# Altium footprint library Connector_PCBEdge.PcbLib: 101 footprints (part 6 of 7)
Each footprint in its own frame and in the unit in brackets; x right, y up, seen from the top. Pads: shape width x height; smd on the part's side, far side on the other; paste and mask are expansions set on the pad; w line width, h text height; cw(c..) or ccw(c..) is an arc to the next point about the centre after c.
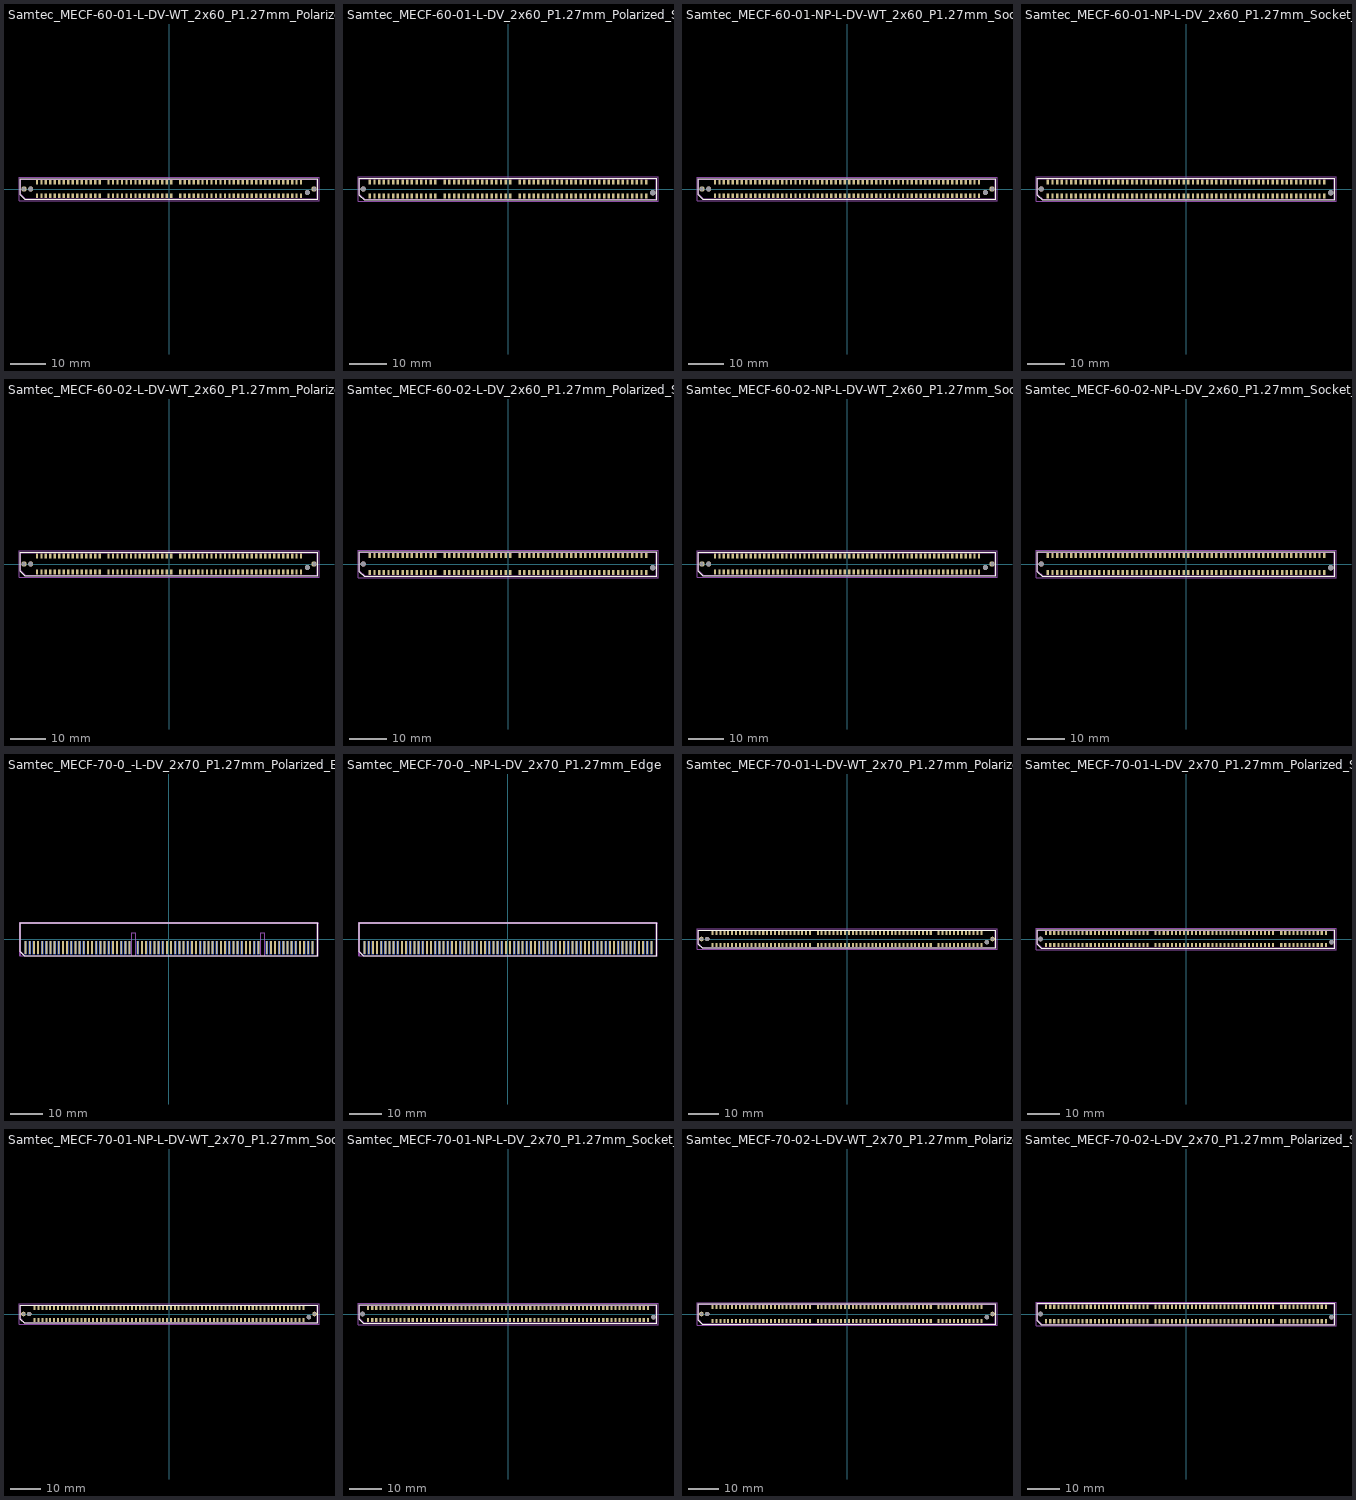
[diagram p5: the footprints below, top view; thin cyan lines are the x and y axes]

## Samtec_MECF-60-01-L-DV-WT_2x60_P1.27mm_Polarized_Socket_Horizontal [mm]
pads (120):
  rect 0.66x1.35 smd: 1(-37.465,-1.905) 2(-37.465,1.905) 3(-36.195,-1.905) 4(-36.195,1.905) 5(-34.925,-1.905) 6(-34.925,1.905) 7(-33.655,-1.905) 8(-33.655,1.905) 9(-32.385,-1.905) 10(-32.385,1.905) 11(-31.115,-1.905) 12(-31.115,1.905) 13(-29.845,-1.905) 14(-29.845,1.905) 15(-28.575,-1.905) 16(-28.575,1.905) 17(-27.305,-1.905) 18(-27.305,1.905) 19(-26.035,-1.905) 20(-26.035,1.905) 21(-24.765,-1.905) 22(-24.765,1.905) 23(-23.495,-1.905) 24(-23.495,1.905) 25(-22.225,-1.905) 26(-22.225,1.905) 27(-20.955,-1.905) 28(-20.955,1.905) 29(-19.685,-1.905) 30(-19.685,1.905) 33(-17.145,-1.905) 34(-17.145,1.905) 35(-15.875,-1.905) 36(-15.875,1.905) 37(-14.605,-1.905) 38(-14.605,1.905) 39(-13.335,-1.905) 40(-13.335,1.905) 41(-12.065,-1.905) 42(-12.065,1.905) 43(-10.795,-1.905) 44(-10.795,1.905) 45(-9.525,-1.905) 46(-9.525,1.905) 47(-8.255,-1.905) 48(-8.255,1.905) 49(-6.985,-1.905) 50(-6.985,1.905) 51(-5.715,-1.905) 52(-5.715,1.905) 53(-4.445,-1.905) 54(-4.445,1.905) 55(-3.175,-1.905) 56(-3.175,1.905) 57(-1.905,-1.905) 58(-1.905,1.905) 59(-0.635,-1.905) 60(-0.635,1.905) 61(0.635,-1.905) 62(0.635,1.905) 65(3.175,-1.905) 66(3.175,1.905) 67(4.445,-1.905) 68(4.445,1.905) 69(5.715,-1.905) 70(5.715,1.905) 71(6.985,-1.905) 72(6.985,1.905) 73(8.255,-1.905) 74(8.255,1.905) 75(9.525,-1.905) 76(9.525,1.905) 77(10.795,-1.905) 78(10.795,1.905) 79(12.065,-1.905) 80(12.065,1.905) 81(13.335,-1.905) 82(13.335,1.905) 83(14.605,-1.905) 84(14.605,1.905) 85(15.875,-1.905) 86(15.875,1.905) 87(17.145,-1.905) 88(17.145,1.905) 89(18.415,-1.905) 90(18.415,1.905) 91(19.685,-1.905) 92(19.685,1.905) 93(20.955,-1.905) 94(20.955,1.905) 95(22.225,-1.905) 96(22.225,1.905) 97(23.495,-1.905) 98(23.495,1.905) 99(24.765,-1.905) 100(24.765,1.905) 101(26.035,-1.905) 102(26.035,1.905) 103(27.305,-1.905) 104(27.305,1.905) 105(28.575,-1.905) 106(28.575,1.905) 107(29.845,-1.905) 108(29.845,1.905) 109(31.115,-1.905) 110(31.115,1.905) 111(32.385,-1.905) 112(32.385,1.905) 113(33.655,-1.905) 114(33.655,1.905) 115(34.925,-1.905) 116(34.925,1.905) 117(36.195,-1.905) 118(36.195,1.905) 119(37.465,-1.905) 120(37.465,1.905)
  round 1.5 hole 1: Un1(-41.15,0) Un4(41.15,0)
  round 1.45 hole 1.45: Un2(-39.245,0) Un3(39.245,-1)
F.SilkS:
  lines w0.254: -42.17,-1.65 -40.9,-2.92 42.17,-2.92 42.17,2.92 -42.17,2.92 -42.17,-1.65
Top Assembly:
  lines w0.254: -42.06,-1.535 -40.79,-2.805 42.06,-2.805 42.06,2.805 -42.06,2.805 -42.06,-1.535
  text "'.Designator'" at -4.047,-0.84 h1
Top Courtyard:
  lines w0.254: -42.56,-3.31 42.56,-3.31 42.56,3.31 -42.56,3.31 -42.56,-3.31
Top Designator:
  text ".Designator" at -7.618,-0.508 h1.52

## Samtec_MECF-60-01-L-DV_2x60_P1.27mm_Polarized_Socket_Horizontal [mm]
pads (118):
  rect 0.66x1.35 smd: 1(-37.465,-1.905) 2(-37.465,1.905) 3(-36.195,-1.905) 4(-36.195,1.905) 5(-34.925,-1.905) 6(-34.925,1.905) 7(-33.655,-1.905) 8(-33.655,1.905) 9(-32.385,-1.905) 10(-32.385,1.905) 11(-31.115,-1.905) 12(-31.115,1.905) 13(-29.845,-1.905) 14(-29.845,1.905) 15(-28.575,-1.905) 16(-28.575,1.905) 17(-27.305,-1.905) 18(-27.305,1.905) 19(-26.035,-1.905) 20(-26.035,1.905) 21(-24.765,-1.905) 22(-24.765,1.905) 23(-23.495,-1.905) 24(-23.495,1.905) 25(-22.225,-1.905) 26(-22.225,1.905) 27(-20.955,-1.905) 28(-20.955,1.905) 29(-19.685,-1.905) 30(-19.685,1.905) 33(-17.145,-1.905) 34(-17.145,1.905) 35(-15.875,-1.905) 36(-15.875,1.905) 37(-14.605,-1.905) 38(-14.605,1.905) 39(-13.335,-1.905) 40(-13.335,1.905) 41(-12.065,-1.905) 42(-12.065,1.905) 43(-10.795,-1.905) 44(-10.795,1.905) 45(-9.525,-1.905) 46(-9.525,1.905) 47(-8.255,-1.905) 48(-8.255,1.905) 49(-6.985,-1.905) 50(-6.985,1.905) 51(-5.715,-1.905) 52(-5.715,1.905) 53(-4.445,-1.905) 54(-4.445,1.905) 55(-3.175,-1.905) 56(-3.175,1.905) 57(-1.905,-1.905) 58(-1.905,1.905) 59(-0.635,-1.905) 60(-0.635,1.905) 61(0.635,-1.905) 62(0.635,1.905) 65(3.175,-1.905) 66(3.175,1.905) 67(4.445,-1.905) 68(4.445,1.905) 69(5.715,-1.905) 70(5.715,1.905) 71(6.985,-1.905) 72(6.985,1.905) 73(8.255,-1.905) 74(8.255,1.905) 75(9.525,-1.905) 76(9.525,1.905) 77(10.795,-1.905) 78(10.795,1.905) 79(12.065,-1.905) 80(12.065,1.905) 81(13.335,-1.905) 82(13.335,1.905) 83(14.605,-1.905) 84(14.605,1.905) 85(15.875,-1.905) 86(15.875,1.905) 87(17.145,-1.905) 88(17.145,1.905) 89(18.415,-1.905) 90(18.415,1.905) 91(19.685,-1.905) 92(19.685,1.905) 93(20.955,-1.905) 94(20.955,1.905) 95(22.225,-1.905) 96(22.225,1.905) 97(23.495,-1.905) 98(23.495,1.905) 99(24.765,-1.905) 100(24.765,1.905) 101(26.035,-1.905) 102(26.035,1.905) 103(27.305,-1.905) 104(27.305,1.905) 105(28.575,-1.905) 106(28.575,1.905) 107(29.845,-1.905) 108(29.845,1.905) 109(31.115,-1.905) 110(31.115,1.905) 111(32.385,-1.905) 112(32.385,1.905) 113(33.655,-1.905) 114(33.655,1.905) 115(34.925,-1.905) 116(34.925,1.905) 117(36.195,-1.905) 118(36.195,1.905) 119(37.465,-1.905) 120(37.465,1.905)
  round 1.45 hole 1.45: Un1(-39.245,0) Un2(39.245,-1)
F.SilkS:
  lines w0.254: -40.26,-1.65 -38.99,-2.92 40.26,-2.92 40.26,2.92 -40.26,2.92 -40.26,-1.65
Top Assembly:
  lines w0.254: -40.155,-1.535 -38.885,-2.805 40.155,-2.805 40.155,2.805 -40.155,2.805 -40.155,-1.535
  text "'.Designator'" at -4.047,-0.84 h1
Top Courtyard:
  lines w0.254: -40.66,-3.31 40.66,-3.31 40.66,3.31 -40.66,3.31 -40.66,-3.31
Top Designator:
  text ".Designator" at -7.618,-0.508 h1.52

## Samtec_MECF-60-01-NP-L-DV-WT_2x60_P1.27mm_Socket_Horizontal [mm]
pads (124):
  rect 0.66x1.35 smd: 1(-37.465,-1.905) 2(-37.465,1.905) 3(-36.195,-1.905) 4(-36.195,1.905) 5(-34.925,-1.905) 6(-34.925,1.905) 7(-33.655,-1.905) 8(-33.655,1.905) 9(-32.385,-1.905) 10(-32.385,1.905) 11(-31.115,-1.905) 12(-31.115,1.905) 13(-29.845,-1.905) 14(-29.845,1.905) 15(-28.575,-1.905) 16(-28.575,1.905) 17(-27.305,-1.905) 18(-27.305,1.905) 19(-26.035,-1.905) 20(-26.035,1.905) 21(-24.765,-1.905) 22(-24.765,1.905) 23(-23.495,-1.905) 24(-23.495,1.905) 25(-22.225,-1.905) 26(-22.225,1.905) 27(-20.955,-1.905) 28(-20.955,1.905) 29(-19.685,-1.905) 30(-19.685,1.905) 31(-18.415,-1.905) 32(-18.415,1.905) 33(-17.145,-1.905) 34(-17.145,1.905) 35(-15.875,-1.905) 36(-15.875,1.905) 37(-14.605,-1.905) 38(-14.605,1.905) 39(-13.335,-1.905) 40(-13.335,1.905) 41(-12.065,-1.905) 42(-12.065,1.905) 43(-10.795,-1.905) 44(-10.795,1.905) 45(-9.525,-1.905) 46(-9.525,1.905) 47(-8.255,-1.905) 48(-8.255,1.905) 49(-6.985,-1.905) 50(-6.985,1.905) 51(-5.715,-1.905) 52(-5.715,1.905) 53(-4.445,-1.905) 54(-4.445,1.905) 55(-3.175,-1.905) 56(-3.175,1.905) 57(-1.905,-1.905) 58(-1.905,1.905) 59(-0.635,-1.905) 60(-0.635,1.905) 61(0.635,-1.905) 62(0.635,1.905) 63(1.905,-1.905) 64(1.905,1.905) 65(3.175,-1.905) 66(3.175,1.905) 67(4.445,-1.905) 68(4.445,1.905) 69(5.715,-1.905) 70(5.715,1.905) 71(6.985,-1.905) 72(6.985,1.905) 73(8.255,-1.905) 74(8.255,1.905) 75(9.525,-1.905) 76(9.525,1.905) 77(10.795,-1.905) 78(10.795,1.905) 79(12.065,-1.905) 80(12.065,1.905) 81(13.335,-1.905) 82(13.335,1.905) 83(14.605,-1.905) 84(14.605,1.905) 85(15.875,-1.905) 86(15.875,1.905) 87(17.145,-1.905) 88(17.145,1.905) 89(18.415,-1.905) 90(18.415,1.905) 91(19.685,-1.905) 92(19.685,1.905) 93(20.955,-1.905) 94(20.955,1.905) 95(22.225,-1.905) 96(22.225,1.905) 97(23.495,-1.905) 98(23.495,1.905) 99(24.765,-1.905) 100(24.765,1.905) 101(26.035,-1.905) 102(26.035,1.905) 103(27.305,-1.905) 104(27.305,1.905) 105(28.575,-1.905) 106(28.575,1.905) 107(29.845,-1.905) 108(29.845,1.905) 109(31.115,-1.905) 110(31.115,1.905) 111(32.385,-1.905) 112(32.385,1.905) 113(33.655,-1.905) 114(33.655,1.905) 115(34.925,-1.905) 116(34.925,1.905) 117(36.195,-1.905) 118(36.195,1.905) 119(37.465,-1.905) 120(37.465,1.905)
  round 1.5 hole 1: Un1(-41.15,0) Un4(41.15,0)
  round 1.45 hole 1.45: Un2(-39.245,0) Un3(39.245,-1)
F.SilkS:
  lines w0.254: -42.17,-1.65 -40.9,-2.92 42.17,-2.92 42.17,2.92 -42.17,2.92 -42.17,-1.65
Top Assembly:
  lines w0.254: -42.06,-1.535 -40.79,-2.805 42.06,-2.805 42.06,2.805 -42.06,2.805 -42.06,-1.535
  text "'.Designator'" at -4.047,-0.84 h1
Top Courtyard:
  lines w0.254: -42.56,-3.31 42.56,-3.31 42.56,3.31 -42.56,3.31 -42.56,-3.31
Top Designator:
  text ".Designator" at -7.618,-0.508 h1.52

## Samtec_MECF-60-01-NP-L-DV_2x60_P1.27mm_Socket_Horizontal [mm]
pads (122):
  rect 0.66x1.35 smd: 1(-37.465,-1.905) 2(-37.465,1.905) 3(-36.195,-1.905) 4(-36.195,1.905) 5(-34.925,-1.905) 6(-34.925,1.905) 7(-33.655,-1.905) 8(-33.655,1.905) 9(-32.385,-1.905) 10(-32.385,1.905) 11(-31.115,-1.905) 12(-31.115,1.905) 13(-29.845,-1.905) 14(-29.845,1.905) 15(-28.575,-1.905) 16(-28.575,1.905) 17(-27.305,-1.905) 18(-27.305,1.905) 19(-26.035,-1.905) 20(-26.035,1.905) 21(-24.765,-1.905) 22(-24.765,1.905) 23(-23.495,-1.905) 24(-23.495,1.905) 25(-22.225,-1.905) 26(-22.225,1.905) 27(-20.955,-1.905) 28(-20.955,1.905) 29(-19.685,-1.905) 30(-19.685,1.905) 31(-18.415,-1.905) 32(-18.415,1.905) 33(-17.145,-1.905) 34(-17.145,1.905) 35(-15.875,-1.905) 36(-15.875,1.905) 37(-14.605,-1.905) 38(-14.605,1.905) 39(-13.335,-1.905) 40(-13.335,1.905) 41(-12.065,-1.905) 42(-12.065,1.905) 43(-10.795,-1.905) 44(-10.795,1.905) 45(-9.525,-1.905) 46(-9.525,1.905) 47(-8.255,-1.905) 48(-8.255,1.905) 49(-6.985,-1.905) 50(-6.985,1.905) 51(-5.715,-1.905) 52(-5.715,1.905) 53(-4.445,-1.905) 54(-4.445,1.905) 55(-3.175,-1.905) 56(-3.175,1.905) 57(-1.905,-1.905) 58(-1.905,1.905) 59(-0.635,-1.905) 60(-0.635,1.905) 61(0.635,-1.905) 62(0.635,1.905) 63(1.905,-1.905) 64(1.905,1.905) 65(3.175,-1.905) 66(3.175,1.905) 67(4.445,-1.905) 68(4.445,1.905) 69(5.715,-1.905) 70(5.715,1.905) 71(6.985,-1.905) 72(6.985,1.905) 73(8.255,-1.905) 74(8.255,1.905) 75(9.525,-1.905) 76(9.525,1.905) 77(10.795,-1.905) 78(10.795,1.905) 79(12.065,-1.905) 80(12.065,1.905) 81(13.335,-1.905) 82(13.335,1.905) 83(14.605,-1.905) 84(14.605,1.905) 85(15.875,-1.905) 86(15.875,1.905) 87(17.145,-1.905) 88(17.145,1.905) 89(18.415,-1.905) 90(18.415,1.905) 91(19.685,-1.905) 92(19.685,1.905) 93(20.955,-1.905) 94(20.955,1.905) 95(22.225,-1.905) 96(22.225,1.905) 97(23.495,-1.905) 98(23.495,1.905) 99(24.765,-1.905) 100(24.765,1.905) 101(26.035,-1.905) 102(26.035,1.905) 103(27.305,-1.905) 104(27.305,1.905) 105(28.575,-1.905) 106(28.575,1.905) 107(29.845,-1.905) 108(29.845,1.905) 109(31.115,-1.905) 110(31.115,1.905) 111(32.385,-1.905) 112(32.385,1.905) 113(33.655,-1.905) 114(33.655,1.905) 115(34.925,-1.905) 116(34.925,1.905) 117(36.195,-1.905) 118(36.195,1.905) 119(37.465,-1.905) 120(37.465,1.905)
  round 1.45 hole 1.45: Un1(-39.245,0) Un2(39.245,-1)
F.SilkS:
  lines w0.254: -40.26,-1.65 -38.99,-2.92 40.26,-2.92 40.26,2.92 -40.26,2.92 -40.26,-1.65
Top Assembly:
  lines w0.254: -40.155,-1.535 -38.885,-2.805 40.155,-2.805 40.155,2.805 -40.155,2.805 -40.155,-1.535
  text "'.Designator'" at -4.047,-0.84 h1
Top Courtyard:
  lines w0.254: -40.66,-3.31 40.66,-3.31 40.66,3.31 -40.66,3.31 -40.66,-3.31
Top Designator:
  text ".Designator" at -7.618,-0.508 h1.52

## Samtec_MECF-60-02-L-DV-WT_2x60_P1.27mm_Polarized_Socket_Horizontal [mm]
pads (120):
  rect 0.66x1.35 smd: 1(-37.465,-2.3) 2(-37.465,2.3) 3(-36.195,-2.3) 4(-36.195,2.3) 5(-34.925,-2.3) 6(-34.925,2.3) 7(-33.655,-2.3) 8(-33.655,2.3) 9(-32.385,-2.3) 10(-32.385,2.3) 11(-31.115,-2.3) 12(-31.115,2.3) 13(-29.845,-2.3) 14(-29.845,2.3) 15(-28.575,-2.3) 16(-28.575,2.3) 17(-27.305,-2.3) 18(-27.305,2.3) 19(-26.035,-2.3) 20(-26.035,2.3) 21(-24.765,-2.3) 22(-24.765,2.3) 23(-23.495,-2.3) 24(-23.495,2.3) 25(-22.225,-2.3) 26(-22.225,2.3) 27(-20.955,-2.3) 28(-20.955,2.3) 29(-19.685,-2.3) 30(-19.685,2.3) 33(-17.145,-2.3) 34(-17.145,2.3) 35(-15.875,-2.3) 36(-15.875,2.3) 37(-14.605,-2.3) 38(-14.605,2.3) 39(-13.335,-2.3) 40(-13.335,2.3) 41(-12.065,-2.3) 42(-12.065,2.3) 43(-10.795,-2.3) 44(-10.795,2.3) 45(-9.525,-2.3) 46(-9.525,2.3) 47(-8.255,-2.3) 48(-8.255,2.3) 49(-6.985,-2.3) 50(-6.985,2.3) 51(-5.715,-2.3) 52(-5.715,2.3) 53(-4.445,-2.3) 54(-4.445,2.3) 55(-3.175,-2.3) 56(-3.175,2.3) 57(-1.905,-2.3) 58(-1.905,2.3) 59(-0.635,-2.3) 60(-0.635,2.3) 61(0.635,-2.3) 62(0.635,2.3) 65(3.175,-2.3) 66(3.175,2.3) 67(4.445,-2.3) 68(4.445,2.3) 69(5.715,-2.3) 70(5.715,2.3) 71(6.985,-2.3) 72(6.985,2.3) 73(8.255,-2.3) 74(8.255,2.3) 75(9.525,-2.3) 76(9.525,2.3) 77(10.795,-2.3) 78(10.795,2.3) 79(12.065,-2.3) 80(12.065,2.3) 81(13.335,-2.3) 82(13.335,2.3) 83(14.605,-2.3) 84(14.605,2.3) 85(15.875,-2.3) 86(15.875,2.3) 87(17.145,-2.3) 88(17.145,2.3) 89(18.415,-2.3) 90(18.415,2.3) 91(19.685,-2.3) 92(19.685,2.3) 93(20.955,-2.3) 94(20.955,2.3) 95(22.225,-2.3) 96(22.225,2.3) 97(23.495,-2.3) 98(23.495,2.3) 99(24.765,-2.3) 100(24.765,2.3) 101(26.035,-2.3) 102(26.035,2.3) 103(27.305,-2.3) 104(27.305,2.3) 105(28.575,-2.3) 106(28.575,2.3) 107(29.845,-2.3) 108(29.845,2.3) 109(31.115,-2.3) 110(31.115,2.3) 111(32.385,-2.3) 112(32.385,2.3) 113(33.655,-2.3) 114(33.655,2.3) 115(34.925,-2.3) 116(34.925,2.3) 117(36.195,-2.3) 118(36.195,2.3) 119(37.465,-2.3) 120(37.465,2.3)
  round 1.5 hole 1: Un1(-41.15,0) Un4(41.15,0)
  round 1.45 hole 1.45: Un2(-39.245,0) Un3(39.245,-1)
F.SilkS:
  lines w0.254: -42.17,-2.04 -40.9,-3.31 42.17,-3.31 42.17,3.31 -42.17,3.31 -42.17,-2.04
Top Assembly:
  lines w0.254: -42.06,-1.93 -40.79,-3.2 42.06,-3.2 42.06,3.2 -42.06,3.2 -42.06,-1.93
  text "'.Designator'" at -4.047,-0.84 h1
Top Courtyard:
  lines w0.254: -42.56,-3.7 42.56,-3.7 42.56,3.7 -42.56,3.7 -42.56,-3.7
Top Designator:
  text ".Designator" at -7.618,-0.508 h1.52

## Samtec_MECF-60-02-L-DV_2x60_P1.27mm_Polarized_Socket_Horizontal [mm]
pads (118):
  rect 0.66x1.35 smd: 1(-37.465,-2.3) 2(-37.465,2.3) 3(-36.195,-2.3) 4(-36.195,2.3) 5(-34.925,-2.3) 6(-34.925,2.3) 7(-33.655,-2.3) 8(-33.655,2.3) 9(-32.385,-2.3) 10(-32.385,2.3) 11(-31.115,-2.3) 12(-31.115,2.3) 13(-29.845,-2.3) 14(-29.845,2.3) 15(-28.575,-2.3) 16(-28.575,2.3) 17(-27.305,-2.3) 18(-27.305,2.3) 19(-26.035,-2.3) 20(-26.035,2.3) 21(-24.765,-2.3) 22(-24.765,2.3) 23(-23.495,-2.3) 24(-23.495,2.3) 25(-22.225,-2.3) 26(-22.225,2.3) 27(-20.955,-2.3) 28(-20.955,2.3) 29(-19.685,-2.3) 30(-19.685,2.3) 33(-17.145,-2.3) 34(-17.145,2.3) 35(-15.875,-2.3) 36(-15.875,2.3) 37(-14.605,-2.3) 38(-14.605,2.3) 39(-13.335,-2.3) 40(-13.335,2.3) 41(-12.065,-2.3) 42(-12.065,2.3) 43(-10.795,-2.3) 44(-10.795,2.3) 45(-9.525,-2.3) 46(-9.525,2.3) 47(-8.255,-2.3) 48(-8.255,2.3) 49(-6.985,-2.3) 50(-6.985,2.3) 51(-5.715,-2.3) 52(-5.715,2.3) 53(-4.445,-2.3) 54(-4.445,2.3) 55(-3.175,-2.3) 56(-3.175,2.3) 57(-1.905,-2.3) 58(-1.905,2.3) 59(-0.635,-2.3) 60(-0.635,2.3) 61(0.635,-2.3) 62(0.635,2.3) 65(3.175,-2.3) 66(3.175,2.3) 67(4.445,-2.3) 68(4.445,2.3) 69(5.715,-2.3) 70(5.715,2.3) 71(6.985,-2.3) 72(6.985,2.3) 73(8.255,-2.3) 74(8.255,2.3) 75(9.525,-2.3) 76(9.525,2.3) 77(10.795,-2.3) 78(10.795,2.3) 79(12.065,-2.3) 80(12.065,2.3) 81(13.335,-2.3) 82(13.335,2.3) 83(14.605,-2.3) 84(14.605,2.3) 85(15.875,-2.3) 86(15.875,2.3) 87(17.145,-2.3) 88(17.145,2.3) 89(18.415,-2.3) 90(18.415,2.3) 91(19.685,-2.3) 92(19.685,2.3) 93(20.955,-2.3) 94(20.955,2.3) 95(22.225,-2.3) 96(22.225,2.3) 97(23.495,-2.3) 98(23.495,2.3) 99(24.765,-2.3) 100(24.765,2.3) 101(26.035,-2.3) 102(26.035,2.3) 103(27.305,-2.3) 104(27.305,2.3) 105(28.575,-2.3) 106(28.575,2.3) 107(29.845,-2.3) 108(29.845,2.3) 109(31.115,-2.3) 110(31.115,2.3) 111(32.385,-2.3) 112(32.385,2.3) 113(33.655,-2.3) 114(33.655,2.3) 115(34.925,-2.3) 116(34.925,2.3) 117(36.195,-2.3) 118(36.195,2.3) 119(37.465,-2.3) 120(37.465,2.3)
  round 1.45 hole 1.45: Un1(-39.245,0) Un2(39.245,-1)
F.SilkS:
  lines w0.254: -40.26,-2.04 -38.99,-3.31 40.26,-3.31 40.26,3.31 -40.26,3.31 -40.26,-2.04
Top Assembly:
  lines w0.254: -40.155,-1.93 -38.885,-3.2 40.155,-3.2 40.155,3.2 -40.155,3.2 -40.155,-1.93
  text "'.Designator'" at -4.047,-0.84 h1
Top Courtyard:
  lines w0.254: -40.66,-3.7 40.66,-3.7 40.66,3.7 -40.66,3.7 -40.66,-3.7
Top Designator:
  text ".Designator" at -7.618,-0.508 h1.52

## Samtec_MECF-60-02-NP-L-DV-WT_2x60_P1.27mm_Socket_Horizontal [mm]
pads (124):
  rect 0.66x1.35 smd: 1(-37.465,-2.3) 2(-37.465,2.3) 3(-36.195,-2.3) 4(-36.195,2.3) 5(-34.925,-2.3) 6(-34.925,2.3) 7(-33.655,-2.3) 8(-33.655,2.3) 9(-32.385,-2.3) 10(-32.385,2.3) 11(-31.115,-2.3) 12(-31.115,2.3) 13(-29.845,-2.3) 14(-29.845,2.3) 15(-28.575,-2.3) 16(-28.575,2.3) 17(-27.305,-2.3) 18(-27.305,2.3) 19(-26.035,-2.3) 20(-26.035,2.3) 21(-24.765,-2.3) 22(-24.765,2.3) 23(-23.495,-2.3) 24(-23.495,2.3) 25(-22.225,-2.3) 26(-22.225,2.3) 27(-20.955,-2.3) 28(-20.955,2.3) 29(-19.685,-2.3) 30(-19.685,2.3) 31(-18.415,-2.3) 32(-18.415,2.3) 33(-17.145,-2.3) 34(-17.145,2.3) 35(-15.875,-2.3) 36(-15.875,2.3) 37(-14.605,-2.3) 38(-14.605,2.3) 39(-13.335,-2.3) 40(-13.335,2.3) 41(-12.065,-2.3) 42(-12.065,2.3) 43(-10.795,-2.3) 44(-10.795,2.3) 45(-9.525,-2.3) 46(-9.525,2.3) 47(-8.255,-2.3) 48(-8.255,2.3) 49(-6.985,-2.3) 50(-6.985,2.3) 51(-5.715,-2.3) 52(-5.715,2.3) 53(-4.445,-2.3) 54(-4.445,2.3) 55(-3.175,-2.3) 56(-3.175,2.3) 57(-1.905,-2.3) 58(-1.905,2.3) 59(-0.635,-2.3) 60(-0.635,2.3) 61(0.635,-2.3) 62(0.635,2.3) 63(1.905,-2.3) 64(1.905,2.3) 65(3.175,-2.3) 66(3.175,2.3) 67(4.445,-2.3) 68(4.445,2.3) 69(5.715,-2.3) 70(5.715,2.3) 71(6.985,-2.3) 72(6.985,2.3) 73(8.255,-2.3) 74(8.255,2.3) 75(9.525,-2.3) 76(9.525,2.3) 77(10.795,-2.3) 78(10.795,2.3) 79(12.065,-2.3) 80(12.065,2.3) 81(13.335,-2.3) 82(13.335,2.3) 83(14.605,-2.3) 84(14.605,2.3) 85(15.875,-2.3) 86(15.875,2.3) 87(17.145,-2.3) 88(17.145,2.3) 89(18.415,-2.3) 90(18.415,2.3) 91(19.685,-2.3) 92(19.685,2.3) 93(20.955,-2.3) 94(20.955,2.3) 95(22.225,-2.3) 96(22.225,2.3) 97(23.495,-2.3) 98(23.495,2.3) 99(24.765,-2.3) 100(24.765,2.3) 101(26.035,-2.3) 102(26.035,2.3) 103(27.305,-2.3) 104(27.305,2.3) 105(28.575,-2.3) 106(28.575,2.3) 107(29.845,-2.3) 108(29.845,2.3) 109(31.115,-2.3) 110(31.115,2.3) 111(32.385,-2.3) 112(32.385,2.3) 113(33.655,-2.3) 114(33.655,2.3) 115(34.925,-2.3) 116(34.925,2.3) 117(36.195,-2.3) 118(36.195,2.3) 119(37.465,-2.3) 120(37.465,2.3)
  round 1.5 hole 1: Un1(-41.15,0) Un4(41.15,0)
  round 1.45 hole 1.45: Un2(-39.245,0) Un3(39.245,-1)
F.SilkS:
  lines w0.254: -42.17,-2.04 -40.9,-3.31 42.17,-3.31 42.17,3.31 -42.17,3.31 -42.17,-2.04
Top Assembly:
  lines w0.254: -42.06,-1.93 -40.79,-3.2 42.06,-3.2 42.06,3.2 -42.06,3.2 -42.06,-1.93
  text "'.Designator'" at -4.047,-0.84 h1
Top Courtyard:
  lines w0.254: -42.56,-3.7 42.56,-3.7 42.56,3.7 -42.56,3.7 -42.56,-3.7
Top Designator:
  text ".Designator" at -7.618,-0.508 h1.52

## Samtec_MECF-60-02-NP-L-DV_2x60_P1.27mm_Socket_Horizontal [mm]
pads (122):
  rect 0.66x1.35 smd: 1(-37.465,-2.3) 2(-37.465,2.3) 3(-36.195,-2.3) 4(-36.195,2.3) 5(-34.925,-2.3) 6(-34.925,2.3) 7(-33.655,-2.3) 8(-33.655,2.3) 9(-32.385,-2.3) 10(-32.385,2.3) 11(-31.115,-2.3) 12(-31.115,2.3) 13(-29.845,-2.3) 14(-29.845,2.3) 15(-28.575,-2.3) 16(-28.575,2.3) 17(-27.305,-2.3) 18(-27.305,2.3) 19(-26.035,-2.3) 20(-26.035,2.3) 21(-24.765,-2.3) 22(-24.765,2.3) 23(-23.495,-2.3) 24(-23.495,2.3) 25(-22.225,-2.3) 26(-22.225,2.3) 27(-20.955,-2.3) 28(-20.955,2.3) 29(-19.685,-2.3) 30(-19.685,2.3) 31(-18.415,-2.3) 32(-18.415,2.3) 33(-17.145,-2.3) 34(-17.145,2.3) 35(-15.875,-2.3) 36(-15.875,2.3) 37(-14.605,-2.3) 38(-14.605,2.3) 39(-13.335,-2.3) 40(-13.335,2.3) 41(-12.065,-2.3) 42(-12.065,2.3) 43(-10.795,-2.3) 44(-10.795,2.3) 45(-9.525,-2.3) 46(-9.525,2.3) 47(-8.255,-2.3) 48(-8.255,2.3) 49(-6.985,-2.3) 50(-6.985,2.3) 51(-5.715,-2.3) 52(-5.715,2.3) 53(-4.445,-2.3) 54(-4.445,2.3) 55(-3.175,-2.3) 56(-3.175,2.3) 57(-1.905,-2.3) 58(-1.905,2.3) 59(-0.635,-2.3) 60(-0.635,2.3) 61(0.635,-2.3) 62(0.635,2.3) 63(1.905,-2.3) 64(1.905,2.3) 65(3.175,-2.3) 66(3.175,2.3) 67(4.445,-2.3) 68(4.445,2.3) 69(5.715,-2.3) 70(5.715,2.3) 71(6.985,-2.3) 72(6.985,2.3) 73(8.255,-2.3) 74(8.255,2.3) 75(9.525,-2.3) 76(9.525,2.3) 77(10.795,-2.3) 78(10.795,2.3) 79(12.065,-2.3) 80(12.065,2.3) 81(13.335,-2.3) 82(13.335,2.3) 83(14.605,-2.3) 84(14.605,2.3) 85(15.875,-2.3) 86(15.875,2.3) 87(17.145,-2.3) 88(17.145,2.3) 89(18.415,-2.3) 90(18.415,2.3) 91(19.685,-2.3) 92(19.685,2.3) 93(20.955,-2.3) 94(20.955,2.3) 95(22.225,-2.3) 96(22.225,2.3) 97(23.495,-2.3) 98(23.495,2.3) 99(24.765,-2.3) 100(24.765,2.3) 101(26.035,-2.3) 102(26.035,2.3) 103(27.305,-2.3) 104(27.305,2.3) 105(28.575,-2.3) 106(28.575,2.3) 107(29.845,-2.3) 108(29.845,2.3) 109(31.115,-2.3) 110(31.115,2.3) 111(32.385,-2.3) 112(32.385,2.3) 113(33.655,-2.3) 114(33.655,2.3) 115(34.925,-2.3) 116(34.925,2.3) 117(36.195,-2.3) 118(36.195,2.3) 119(37.465,-2.3) 120(37.465,2.3)
  round 1.45 hole 1.45: Un1(-39.245,0) Un2(39.245,-1)
F.SilkS:
  lines w0.254: -40.26,-2.04 -38.99,-3.31 40.26,-3.31 40.26,3.31 -40.26,3.31 -40.26,-2.04
Top Assembly:
  lines w0.254: -40.155,-1.93 -38.885,-3.2 40.155,-3.2 40.155,3.2 -40.155,3.2 -40.155,-1.93
  text "'.Designator'" at -4.047,-0.84 h1
Top Courtyard:
  lines w0.254: -40.66,-3.7 40.66,-3.7 40.66,3.7 -40.66,3.7 -40.66,-3.7
Top Designator:
  text ".Designator" at -7.618,-0.508 h1.52

## Samtec_MECF-70-0_-L-DV_2x70_P1.27mm_Polarized_Edge [mm]
pads (136):
  rect 0.56x4 smd: 1(-43.805,-2.5) 3(-42.535,-2.5) 5(-41.265,-2.5) 7(-39.995,-2.5) 9(-38.725,-2.5) 11(-37.455,-2.5) 13(-36.185,-2.5) 15(-34.915,-2.5) 17(-33.645,-2.5) 19(-32.375,-2.5) 21(-31.105,-2.5) 23(-29.835,-2.5) 25(-28.565,-2.5) 27(-27.295,-2.5) 29(-26.025,-2.5) 31(-24.755,-2.5) 33(-23.485,-2.5) 35(-22.215,-2.5) 37(-20.945,-2.5) 39(-19.675,-2.5) 41(-18.405,-2.5) 43(-17.135,-2.5) 45(-15.865,-2.5) 47(-14.595,-2.5) 49(-13.325,-2.5) 51(-12.055,-2.5) 55(-9.515,-2.5) 57(-8.245,-2.5) 59(-6.975,-2.5) 61(-5.705,-2.5) 63(-4.435,-2.5) 65(-3.165,-2.5) 67(-1.895,-2.5) 69(-0.625,-2.5) 71(0.645,-2.5) 73(1.915,-2.5) 75(3.185,-2.5) 77(4.455,-2.5) 79(5.725,-2.5) 81(6.995,-2.5) 83(8.265,-2.5) 85(9.535,-2.5) 87(10.805,-2.5) 89(12.075,-2.5) 91(13.345,-2.5) 93(14.615,-2.5) 95(15.885,-2.5) 97(17.155,-2.5) 99(18.425,-2.5) 101(19.695,-2.5) 103(20.965,-2.5) 105(22.235,-2.5) 107(23.505,-2.5) 109(24.775,-2.5) 111(26.045,-2.5) 113(27.315,-2.5) 117(29.855,-2.5) 119(31.125,-2.5) 121(32.395,-2.5) 123(33.665,-2.5) 125(34.935,-2.5) 127(36.205,-2.5) 129(37.475,-2.5) 131(38.745,-2.5) 133(40.015,-2.5) 135(41.285,-2.5) 137(42.555,-2.5) 139(43.825,-2.5)
  rect 0.56x4 smd far side: 2(-43.805,-2.5) 4(-42.535,-2.5) 6(-41.265,-2.5) 8(-39.995,-2.5) 10(-38.725,-2.5) 12(-37.455,-2.5) 14(-36.185,-2.5) 16(-34.915,-2.5) 18(-33.645,-2.5) 20(-32.375,-2.5) 22(-31.105,-2.5) 24(-29.835,-2.5) 26(-28.565,-2.5) 28(-27.295,-2.5) 30(-26.025,-2.5) 32(-24.755,-2.5) 34(-23.485,-2.5) 36(-22.215,-2.5) 38(-20.945,-2.5) 40(-19.675,-2.5) 42(-18.405,-2.5) 44(-17.135,-2.5) 46(-15.865,-2.5) 48(-14.595,-2.5) 50(-13.325,-2.5) 52(-12.055,-2.5) 56(-9.515,-2.5) 58(-8.245,-2.5) 60(-6.975,-2.5) 62(-5.705,-2.5) 64(-4.435,-2.5) 66(-3.165,-2.5) 68(-1.895,-2.5) 70(-0.625,-2.5) 72(0.645,-2.5) 74(1.915,-2.5) 76(3.185,-2.5) 78(4.455,-2.5) 80(5.725,-2.5) 82(6.995,-2.5) 84(8.265,-2.5) 86(9.535,-2.5) 88(10.805,-2.5) 90(12.075,-2.5) 92(13.345,-2.5) 94(14.615,-2.5) 96(15.885,-2.5) 98(17.155,-2.5) 100(18.425,-2.5) 102(19.695,-2.5) 104(20.965,-2.5) 106(22.235,-2.5) 108(23.505,-2.5) 110(24.775,-2.5) 112(26.045,-2.5) 114(27.315,-2.5) 118(29.855,-2.5) 120(31.125,-2.5) 122(32.395,-2.5) 124(33.665,-2.5) 126(34.935,-2.5) 128(36.205,-2.5) 130(37.475,-2.5) 132(38.745,-2.5) 134(40.015,-2.5) 136(41.285,-2.5) 138(42.555,-2.5) 140(43.825,-2.5)
F.SilkS:
  lines w0.254: -45.44,-3.73 -44.17,-5 45.44,-5 45.44,5.11 -45.44,5.11 -45.44,-3.73
B.SilkS:
  lines w0.254: -45.44,-5 45.44,-5 45.44,5.11 -45.44,5.11 -45.44,-5
Top Assembly:
  lines w0.254: -45.325,-3.73 -44.055,-5 45.325,-5 45.325,5 -45.325,5 -45.325,-3.73
  text "'.Designator'" at -4.047,1.7 h1
Bottom Assembly:
  lines w0.254: -45.325,-5 45.325,-5 45.325,5 -45.325,5 -45.325,-5
Top Courtyard:
  lines w0.254: -45.58,-5 45.58,-5 45.58,5.25 -45.58,5.25 -45.58,-5
Bottom Courtyard:
  lines w0.254: -45.58,-5 45.58,-5 45.58,5.25 -45.58,5.25 -45.58,-5
Top Designator:
  text ".Designator" at -7.618,-0.383 h1.52
Board Shape:
  lines w0.254: -45.75,5 -45.325,5 -45.325,-5 -11.405,-5 -11.405,2 -10.165,2 -10.165,-5 27.965,-5 27.965,2 29.205,2 29.205,-5 45.325,-5 45.325,5 45.75,5

## Samtec_MECF-70-0_-NP-L-DV_2x70_P1.27mm_Edge [mm]
pads (140):
  rect 0.56x4 smd: 1(-43.805,-2.5) 3(-42.535,-2.5) 5(-41.265,-2.5) 7(-39.995,-2.5) 9(-38.725,-2.5) 11(-37.455,-2.5) 13(-36.185,-2.5) 15(-34.915,-2.5) 17(-33.645,-2.5) 19(-32.375,-2.5) 21(-31.105,-2.5) 23(-29.835,-2.5) 25(-28.565,-2.5) 27(-27.295,-2.5) 29(-26.025,-2.5) 31(-24.755,-2.5) 33(-23.485,-2.5) 35(-22.215,-2.5) 37(-20.945,-2.5) 39(-19.675,-2.5) 41(-18.405,-2.5) 43(-17.135,-2.5) 45(-15.865,-2.5) 47(-14.595,-2.5) 49(-13.325,-2.5) 51(-12.055,-2.5) 53(-10.785,-2.5) 55(-9.515,-2.5) 57(-8.245,-2.5) 59(-6.975,-2.5) 61(-5.705,-2.5) 63(-4.435,-2.5) 65(-3.165,-2.5) 67(-1.895,-2.5) 69(-0.625,-2.5) 71(0.645,-2.5) 73(1.915,-2.5) 75(3.185,-2.5) 77(4.455,-2.5) 79(5.725,-2.5) 81(6.995,-2.5) 83(8.265,-2.5) 85(9.535,-2.5) 87(10.805,-2.5) 89(12.075,-2.5) 91(13.345,-2.5) 93(14.615,-2.5) 95(15.885,-2.5) 97(17.155,-2.5) 99(18.425,-2.5) 101(19.695,-2.5) 103(20.965,-2.5) 105(22.235,-2.5) 107(23.505,-2.5) 109(24.775,-2.5) 111(26.045,-2.5) 113(27.315,-2.5) 115(28.585,-2.5) 117(29.855,-2.5) 119(31.125,-2.5) 121(32.395,-2.5) 123(33.665,-2.5) 125(34.935,-2.5) 127(36.205,-2.5) 129(37.475,-2.5) 131(38.745,-2.5) 133(40.015,-2.5) 135(41.285,-2.5) 137(42.555,-2.5) 139(43.825,-2.5)
  rect 0.56x4 smd far side: 2(-43.805,-2.5) 4(-42.535,-2.5) 6(-41.265,-2.5) 8(-39.995,-2.5) 10(-38.725,-2.5) 12(-37.455,-2.5) 14(-36.185,-2.5) 16(-34.915,-2.5) 18(-33.645,-2.5) 20(-32.375,-2.5) 22(-31.105,-2.5) 24(-29.835,-2.5) 26(-28.565,-2.5) 28(-27.295,-2.5) 30(-26.025,-2.5) 32(-24.755,-2.5) 34(-23.485,-2.5) 36(-22.215,-2.5) 38(-20.945,-2.5) 40(-19.675,-2.5) 42(-18.405,-2.5) 44(-17.135,-2.5) 46(-15.865,-2.5) 48(-14.595,-2.5) 50(-13.325,-2.5) 52(-12.055,-2.5) 54(-10.785,-2.5) 56(-9.515,-2.5) 58(-8.245,-2.5) 60(-6.975,-2.5) 62(-5.705,-2.5) 64(-4.435,-2.5) 66(-3.165,-2.5) 68(-1.895,-2.5) 70(-0.625,-2.5) 72(0.645,-2.5) 74(1.915,-2.5) 76(3.185,-2.5) 78(4.455,-2.5) 80(5.725,-2.5) 82(6.995,-2.5) 84(8.265,-2.5) 86(9.535,-2.5) 88(10.805,-2.5) 90(12.075,-2.5) 92(13.345,-2.5) 94(14.615,-2.5) 96(15.885,-2.5) 98(17.155,-2.5) 100(18.425,-2.5) 102(19.695,-2.5) 104(20.965,-2.5) 106(22.235,-2.5) 108(23.505,-2.5) 110(24.775,-2.5) 112(26.045,-2.5) 114(27.315,-2.5) 116(28.585,-2.5) 118(29.855,-2.5) 120(31.125,-2.5) 122(32.395,-2.5) 124(33.665,-2.5) 126(34.935,-2.5) 128(36.205,-2.5) 130(37.475,-2.5) 132(38.745,-2.5) 134(40.015,-2.5) 136(41.285,-2.5) 138(42.555,-2.5) 140(43.825,-2.5)
F.SilkS:
  lines w0.254: -45.44,-3.73 -44.17,-5 45.44,-5 45.44,5.11 -45.44,5.11 -45.44,-3.73
B.SilkS:
  lines w0.254: -45.44,-5 45.44,-5 45.44,5.11 -45.44,5.11 -45.44,-5
Top Assembly:
  lines w0.254: -45.325,-3.73 -44.055,-5 45.325,-5 45.325,5 -45.325,5 -45.325,-3.73
  text "'.Designator'" at -4.047,1.7 h1
Bottom Assembly:
  lines w0.254: -45.325,-5 45.325,-5 45.325,5 -45.325,5 -45.325,-5
Top Courtyard:
  lines w0.254: -45.58,-5 45.58,-5 45.58,5.25 -45.58,5.25 -45.58,-5
Bottom Courtyard:
  lines w0.254: -45.58,-5 45.58,-5 45.58,5.25 -45.58,5.25 -45.58,-5
Top Designator:
  text ".Designator" at -7.618,-0.383 h1.52
Board Shape:
  lines w0.254: -45.75,5 -45.325,5 -45.325,-5 45.325,-5 45.325,5 45.75,5

## Samtec_MECF-70-01-L-DV-WT_2x70_P1.27mm_Polarized_Socket_Horizontal [mm]
pads (140):
  rect 0.66x1.35 smd: 1(-43.815,-1.905) 2(-43.815,1.905) 3(-42.545,-1.905) 4(-42.545,1.905) 5(-41.275,-1.905) 6(-41.275,1.905) 7(-40.005,-1.905) 8(-40.005,1.905) 9(-38.735,-1.905) 10(-38.735,1.905) 11(-37.465,-1.905) 12(-37.465,1.905) 13(-36.195,-1.905) 14(-36.195,1.905) 15(-34.925,-1.905) 16(-34.925,1.905) 17(-33.655,-1.905) 18(-33.655,1.905) 19(-32.385,-1.905) 20(-32.385,1.905) 21(-31.115,-1.905) 22(-31.115,1.905) 23(-29.845,-1.905) 24(-29.845,1.905) 25(-28.575,-1.905) 26(-28.575,1.905) 27(-27.305,-1.905) 28(-27.305,1.905) 29(-26.035,-1.905) 30(-26.035,1.905) 31(-24.765,-1.905) 32(-24.765,1.905) 33(-23.495,-1.905) 34(-23.495,1.905) 35(-22.225,-1.905) 36(-22.225,1.905) 37(-20.955,-1.905) 38(-20.955,1.905) 39(-19.685,-1.905) 40(-19.685,1.905) 41(-18.415,-1.905) 42(-18.415,1.905) 43(-17.145,-1.905) 44(-17.145,1.905) 45(-15.875,-1.905) 46(-15.875,1.905) 47(-14.605,-1.905) 48(-14.605,1.905) 49(-13.335,-1.905) 50(-13.335,1.905) 51(-12.065,-1.905) 52(-12.065,1.905) 55(-9.525,-1.905) 56(-9.525,1.905) 57(-8.255,-1.905) 58(-8.255,1.905) 59(-6.985,-1.905) 60(-6.985,1.905) 61(-5.715,-1.905) 62(-5.715,1.905) 63(-4.445,-1.905) 64(-4.445,1.905) 65(-3.175,-1.905) 66(-3.175,1.905) 67(-1.905,-1.905) 68(-1.905,1.905) 69(-0.635,-1.905) 70(-0.635,1.905) 71(0.635,-1.905) 72(0.635,1.905) 73(1.905,-1.905) 74(1.905,1.905) 75(3.175,-1.905) 76(3.175,1.905) 77(4.445,-1.905) 78(4.445,1.905) 79(5.715,-1.905) 80(5.715,1.905) 81(6.985,-1.905) 82(6.985,1.905) 83(8.255,-1.905) 84(8.255,1.905) 85(9.525,-1.905) 86(9.525,1.905) 87(10.795,-1.905) 88(10.795,1.905) 89(12.065,-1.905) 90(12.065,1.905) 91(13.335,-1.905) 92(13.335,1.905) 93(14.605,-1.905) 94(14.605,1.905) 95(15.875,-1.905) 96(15.875,1.905) 97(17.145,-1.905) 98(17.145,1.905) 99(18.415,-1.905) 100(18.415,1.905) 101(19.685,-1.905) 102(19.685,1.905) 103(20.955,-1.905) 104(20.955,1.905) 105(22.225,-1.905) 106(22.225,1.905) 107(23.495,-1.905) 108(23.495,1.905) 109(24.765,-1.905) 110(24.765,1.905) 111(26.035,-1.905) 112(26.035,1.905) 113(27.305,-1.905) 114(27.305,1.905) 117(29.845,-1.905) 118(29.845,1.905) 119(31.115,-1.905) 120(31.115,1.905) 121(32.385,-1.905) 122(32.385,1.905) 123(33.655,-1.905) 124(33.655,1.905) 125(34.925,-1.905) 126(34.925,1.905) 127(36.195,-1.905) 128(36.195,1.905) 129(37.465,-1.905) 130(37.465,1.905) 131(38.735,-1.905) 132(38.735,1.905) 133(40.005,-1.905) 134(40.005,1.905) 135(41.275,-1.905) 136(41.275,1.905) 137(42.545,-1.905) 138(42.545,1.905) 139(43.815,-1.905) 140(43.815,1.905)
  round 1.5 hole 1: Un1(-47.5,0) Un4(47.5,0)
  round 1.45 hole 1.45: Un2(-45.595,0) Un3(45.595,-1)
F.SilkS:
  lines w0.254: -48.52,-1.65 -47.25,-2.92 48.52,-2.92 48.52,2.92 -48.52,2.92 -48.52,-1.65
Top Assembly:
  lines w0.254: -48.41,-1.535 -47.14,-2.805 48.41,-2.805 48.41,2.805 -48.41,2.805 -48.41,-1.535
  text "'.Designator'" at -4.047,-0.84 h1
Top Courtyard:
  lines w0.254: -48.91,-3.31 48.91,-3.31 48.91,3.31 -48.91,3.31 -48.91,-3.31
Top Designator:
  text ".Designator" at -7.618,-0.508 h1.52

## Samtec_MECF-70-01-L-DV_2x70_P1.27mm_Polarized_Socket_Horizontal [mm]
pads (138):
  rect 0.66x1.35 smd: 1(-43.815,-1.905) 2(-43.815,1.905) 3(-42.545,-1.905) 4(-42.545,1.905) 5(-41.275,-1.905) 6(-41.275,1.905) 7(-40.005,-1.905) 8(-40.005,1.905) 9(-38.735,-1.905) 10(-38.735,1.905) 11(-37.465,-1.905) 12(-37.465,1.905) 13(-36.195,-1.905) 14(-36.195,1.905) 15(-34.925,-1.905) 16(-34.925,1.905) 17(-33.655,-1.905) 18(-33.655,1.905) 19(-32.385,-1.905) 20(-32.385,1.905) 21(-31.115,-1.905) 22(-31.115,1.905) 23(-29.845,-1.905) 24(-29.845,1.905) 25(-28.575,-1.905) 26(-28.575,1.905) 27(-27.305,-1.905) 28(-27.305,1.905) 29(-26.035,-1.905) 30(-26.035,1.905) 31(-24.765,-1.905) 32(-24.765,1.905) 33(-23.495,-1.905) 34(-23.495,1.905) 35(-22.225,-1.905) 36(-22.225,1.905) 37(-20.955,-1.905) 38(-20.955,1.905) 39(-19.685,-1.905) 40(-19.685,1.905) 41(-18.415,-1.905) 42(-18.415,1.905) 43(-17.145,-1.905) 44(-17.145,1.905) 45(-15.875,-1.905) 46(-15.875,1.905) 47(-14.605,-1.905) 48(-14.605,1.905) 49(-13.335,-1.905) 50(-13.335,1.905) 51(-12.065,-1.905) 52(-12.065,1.905) 55(-9.525,-1.905) 56(-9.525,1.905) 57(-8.255,-1.905) 58(-8.255,1.905) 59(-6.985,-1.905) 60(-6.985,1.905) 61(-5.715,-1.905) 62(-5.715,1.905) 63(-4.445,-1.905) 64(-4.445,1.905) 65(-3.175,-1.905) 66(-3.175,1.905) 67(-1.905,-1.905) 68(-1.905,1.905) 69(-0.635,-1.905) 70(-0.635,1.905) 71(0.635,-1.905) 72(0.635,1.905) 73(1.905,-1.905) 74(1.905,1.905) 75(3.175,-1.905) 76(3.175,1.905) 77(4.445,-1.905) 78(4.445,1.905) 79(5.715,-1.905) 80(5.715,1.905) 81(6.985,-1.905) 82(6.985,1.905) 83(8.255,-1.905) 84(8.255,1.905) 85(9.525,-1.905) 86(9.525,1.905) 87(10.795,-1.905) 88(10.795,1.905) 89(12.065,-1.905) 90(12.065,1.905) 91(13.335,-1.905) 92(13.335,1.905) 93(14.605,-1.905) 94(14.605,1.905) 95(15.875,-1.905) 96(15.875,1.905) 97(17.145,-1.905) 98(17.145,1.905) 99(18.415,-1.905) 100(18.415,1.905) 101(19.685,-1.905) 102(19.685,1.905) 103(20.955,-1.905) 104(20.955,1.905) 105(22.225,-1.905) 106(22.225,1.905) 107(23.495,-1.905) 108(23.495,1.905) 109(24.765,-1.905) 110(24.765,1.905) 111(26.035,-1.905) 112(26.035,1.905) 113(27.305,-1.905) 114(27.305,1.905) 117(29.845,-1.905) 118(29.845,1.905) 119(31.115,-1.905) 120(31.115,1.905) 121(32.385,-1.905) 122(32.385,1.905) 123(33.655,-1.905) 124(33.655,1.905) 125(34.925,-1.905) 126(34.925,1.905) 127(36.195,-1.905) 128(36.195,1.905) 129(37.465,-1.905) 130(37.465,1.905) 131(38.735,-1.905) 132(38.735,1.905) 133(40.005,-1.905) 134(40.005,1.905) 135(41.275,-1.905) 136(41.275,1.905) 137(42.545,-1.905) 138(42.545,1.905) 139(43.815,-1.905) 140(43.815,1.905)
  round 1.45 hole 1.45: Un1(-45.595,0) Un2(45.595,-1)
F.SilkS:
  lines w0.254: -46.61,-1.65 -45.34,-2.92 46.61,-2.92 46.61,2.92 -46.61,2.92 -46.61,-1.65
Top Assembly:
  lines w0.254: -46.505,-1.535 -45.235,-2.805 46.505,-2.805 46.505,2.805 -46.505,2.805 -46.505,-1.535
  text "'.Designator'" at -4.047,-0.84 h1
Top Courtyard:
  lines w0.254: -47.01,-3.31 47.01,-3.31 47.01,3.31 -47.01,3.31 -47.01,-3.31
Top Designator:
  text ".Designator" at -7.618,-0.508 h1.52

## Samtec_MECF-70-01-NP-L-DV-WT_2x70_P1.27mm_Socket_Horizontal [mm]
pads (144):
  rect 0.66x1.35 smd: 1(-43.815,-1.905) 2(-43.815,1.905) 3(-42.545,-1.905) 4(-42.545,1.905) 5(-41.275,-1.905) 6(-41.275,1.905) 7(-40.005,-1.905) 8(-40.005,1.905) 9(-38.735,-1.905) 10(-38.735,1.905) 11(-37.465,-1.905) 12(-37.465,1.905) 13(-36.195,-1.905) 14(-36.195,1.905) 15(-34.925,-1.905) 16(-34.925,1.905) 17(-33.655,-1.905) 18(-33.655,1.905) 19(-32.385,-1.905) 20(-32.385,1.905) 21(-31.115,-1.905) 22(-31.115,1.905) 23(-29.845,-1.905) 24(-29.845,1.905) 25(-28.575,-1.905) 26(-28.575,1.905) 27(-27.305,-1.905) 28(-27.305,1.905) 29(-26.035,-1.905) 30(-26.035,1.905) 31(-24.765,-1.905) 32(-24.765,1.905) 33(-23.495,-1.905) 34(-23.495,1.905) 35(-22.225,-1.905) 36(-22.225,1.905) 37(-20.955,-1.905) 38(-20.955,1.905) 39(-19.685,-1.905) 40(-19.685,1.905) 41(-18.415,-1.905) 42(-18.415,1.905) 43(-17.145,-1.905) 44(-17.145,1.905) 45(-15.875,-1.905) 46(-15.875,1.905) 47(-14.605,-1.905) 48(-14.605,1.905) 49(-13.335,-1.905) 50(-13.335,1.905) 51(-12.065,-1.905) 52(-12.065,1.905) 53(-10.795,-1.905) 54(-10.795,1.905) 55(-9.525,-1.905) 56(-9.525,1.905) 57(-8.255,-1.905) 58(-8.255,1.905) 59(-6.985,-1.905) 60(-6.985,1.905) 61(-5.715,-1.905) 62(-5.715,1.905) 63(-4.445,-1.905) 64(-4.445,1.905) 65(-3.175,-1.905) 66(-3.175,1.905) 67(-1.905,-1.905) 68(-1.905,1.905) 69(-0.635,-1.905) 70(-0.635,1.905) 71(0.635,-1.905) 72(0.635,1.905) 73(1.905,-1.905) 74(1.905,1.905) 75(3.175,-1.905) 76(3.175,1.905) 77(4.445,-1.905) 78(4.445,1.905) 79(5.715,-1.905) 80(5.715,1.905) 81(6.985,-1.905) 82(6.985,1.905) 83(8.255,-1.905) 84(8.255,1.905) 85(9.525,-1.905) 86(9.525,1.905) 87(10.795,-1.905) 88(10.795,1.905) 89(12.065,-1.905) 90(12.065,1.905) 91(13.335,-1.905) 92(13.335,1.905) 93(14.605,-1.905) 94(14.605,1.905) 95(15.875,-1.905) 96(15.875,1.905) 97(17.145,-1.905) 98(17.145,1.905) 99(18.415,-1.905) 100(18.415,1.905) 101(19.685,-1.905) 102(19.685,1.905) 103(20.955,-1.905) 104(20.955,1.905) 105(22.225,-1.905) 106(22.225,1.905) 107(23.495,-1.905) 108(23.495,1.905) 109(24.765,-1.905) 110(24.765,1.905) 111(26.035,-1.905) 112(26.035,1.905) 113(27.305,-1.905) 114(27.305,1.905) 115(28.575,-1.905) 116(28.575,1.905) 117(29.845,-1.905) 118(29.845,1.905) 119(31.115,-1.905) 120(31.115,1.905) 121(32.385,-1.905) 122(32.385,1.905) 123(33.655,-1.905) 124(33.655,1.905) 125(34.925,-1.905) 126(34.925,1.905) 127(36.195,-1.905) 128(36.195,1.905) 129(37.465,-1.905) 130(37.465,1.905) 131(38.735,-1.905) 132(38.735,1.905) 133(40.005,-1.905) 134(40.005,1.905) 135(41.275,-1.905) 136(41.275,1.905) 137(42.545,-1.905) 138(42.545,1.905) 139(43.815,-1.905) 140(43.815,1.905)
  round 1.5 hole 1: Un1(-47.5,0) Un4(47.5,0)
  round 1.45 hole 1.45: Un2(-45.595,0) Un3(45.595,-1)
F.SilkS:
  lines w0.254: -48.52,-1.65 -47.25,-2.92 48.52,-2.92 48.52,2.92 -48.52,2.92 -48.52,-1.65
Top Assembly:
  lines w0.254: -48.41,-1.535 -47.14,-2.805 48.41,-2.805 48.41,2.805 -48.41,2.805 -48.41,-1.535
  text "'.Designator'" at -4.047,-0.84 h1
Top Courtyard:
  lines w0.254: -48.91,-3.31 48.91,-3.31 48.91,3.31 -48.91,3.31 -48.91,-3.31
Top Designator:
  text ".Designator" at -7.618,-0.508 h1.52

## Samtec_MECF-70-01-NP-L-DV_2x70_P1.27mm_Socket_Horizontal [mm]
pads (142):
  rect 0.66x1.35 smd: 1(-43.815,-1.905) 2(-43.815,1.905) 3(-42.545,-1.905) 4(-42.545,1.905) 5(-41.275,-1.905) 6(-41.275,1.905) 7(-40.005,-1.905) 8(-40.005,1.905) 9(-38.735,-1.905) 10(-38.735,1.905) 11(-37.465,-1.905) 12(-37.465,1.905) 13(-36.195,-1.905) 14(-36.195,1.905) 15(-34.925,-1.905) 16(-34.925,1.905) 17(-33.655,-1.905) 18(-33.655,1.905) 19(-32.385,-1.905) 20(-32.385,1.905) 21(-31.115,-1.905) 22(-31.115,1.905) 23(-29.845,-1.905) 24(-29.845,1.905) 25(-28.575,-1.905) 26(-28.575,1.905) 27(-27.305,-1.905) 28(-27.305,1.905) 29(-26.035,-1.905) 30(-26.035,1.905) 31(-24.765,-1.905) 32(-24.765,1.905) 33(-23.495,-1.905) 34(-23.495,1.905) 35(-22.225,-1.905) 36(-22.225,1.905) 37(-20.955,-1.905) 38(-20.955,1.905) 39(-19.685,-1.905) 40(-19.685,1.905) 41(-18.415,-1.905) 42(-18.415,1.905) 43(-17.145,-1.905) 44(-17.145,1.905) 45(-15.875,-1.905) 46(-15.875,1.905) 47(-14.605,-1.905) 48(-14.605,1.905) 49(-13.335,-1.905) 50(-13.335,1.905) 51(-12.065,-1.905) 52(-12.065,1.905) 53(-10.795,-1.905) 54(-10.795,1.905) 55(-9.525,-1.905) 56(-9.525,1.905) 57(-8.255,-1.905) 58(-8.255,1.905) 59(-6.985,-1.905) 60(-6.985,1.905) 61(-5.715,-1.905) 62(-5.715,1.905) 63(-4.445,-1.905) 64(-4.445,1.905) 65(-3.175,-1.905) 66(-3.175,1.905) 67(-1.905,-1.905) 68(-1.905,1.905) 69(-0.635,-1.905) 70(-0.635,1.905) 71(0.635,-1.905) 72(0.635,1.905) 73(1.905,-1.905) 74(1.905,1.905) 75(3.175,-1.905) 76(3.175,1.905) 77(4.445,-1.905) 78(4.445,1.905) 79(5.715,-1.905) 80(5.715,1.905) 81(6.985,-1.905) 82(6.985,1.905) 83(8.255,-1.905) 84(8.255,1.905) 85(9.525,-1.905) 86(9.525,1.905) 87(10.795,-1.905) 88(10.795,1.905) 89(12.065,-1.905) 90(12.065,1.905) 91(13.335,-1.905) 92(13.335,1.905) 93(14.605,-1.905) 94(14.605,1.905) 95(15.875,-1.905) 96(15.875,1.905) 97(17.145,-1.905) 98(17.145,1.905) 99(18.415,-1.905) 100(18.415,1.905) 101(19.685,-1.905) 102(19.685,1.905) 103(20.955,-1.905) 104(20.955,1.905) 105(22.225,-1.905) 106(22.225,1.905) 107(23.495,-1.905) 108(23.495,1.905) 109(24.765,-1.905) 110(24.765,1.905) 111(26.035,-1.905) 112(26.035,1.905) 113(27.305,-1.905) 114(27.305,1.905) 115(28.575,-1.905) 116(28.575,1.905) 117(29.845,-1.905) 118(29.845,1.905) 119(31.115,-1.905) 120(31.115,1.905) 121(32.385,-1.905) 122(32.385,1.905) 123(33.655,-1.905) 124(33.655,1.905) 125(34.925,-1.905) 126(34.925,1.905) 127(36.195,-1.905) 128(36.195,1.905) 129(37.465,-1.905) 130(37.465,1.905) 131(38.735,-1.905) 132(38.735,1.905) 133(40.005,-1.905) 134(40.005,1.905) 135(41.275,-1.905) 136(41.275,1.905) 137(42.545,-1.905) 138(42.545,1.905) 139(43.815,-1.905) 140(43.815,1.905)
  round 1.45 hole 1.45: Un1(-45.595,0) Un2(45.595,-1)
F.SilkS:
  lines w0.254: -46.61,-1.65 -45.34,-2.92 46.61,-2.92 46.61,2.92 -46.61,2.92 -46.61,-1.65
Top Assembly:
  lines w0.254: -46.505,-1.535 -45.235,-2.805 46.505,-2.805 46.505,2.805 -46.505,2.805 -46.505,-1.535
  text "'.Designator'" at -4.047,-0.84 h1
Top Courtyard:
  lines w0.254: -47.01,-3.31 47.01,-3.31 47.01,3.31 -47.01,3.31 -47.01,-3.31
Top Designator:
  text ".Designator" at -7.618,-0.508 h1.52

## Samtec_MECF-70-02-L-DV-WT_2x70_P1.27mm_Polarized_Socket_Horizontal [mm]
pads (140):
  rect 0.66x1.35 smd: 1(-43.815,-2.3) 2(-43.815,2.3) 3(-42.545,-2.3) 4(-42.545,2.3) 5(-41.275,-2.3) 6(-41.275,2.3) 7(-40.005,-2.3) 8(-40.005,2.3) 9(-38.735,-2.3) 10(-38.735,2.3) 11(-37.465,-2.3) 12(-37.465,2.3) 13(-36.195,-2.3) 14(-36.195,2.3) 15(-34.925,-2.3) 16(-34.925,2.3) 17(-33.655,-2.3) 18(-33.655,2.3) 19(-32.385,-2.3) 20(-32.385,2.3) 21(-31.115,-2.3) 22(-31.115,2.3) 23(-29.845,-2.3) 24(-29.845,2.3) 25(-28.575,-2.3) 26(-28.575,2.3) 27(-27.305,-2.3) 28(-27.305,2.3) 29(-26.035,-2.3) 30(-26.035,2.3) 31(-24.765,-2.3) 32(-24.765,2.3) 33(-23.495,-2.3) 34(-23.495,2.3) 35(-22.225,-2.3) 36(-22.225,2.3) 37(-20.955,-2.3) 38(-20.955,2.3) 39(-19.685,-2.3) 40(-19.685,2.3) 41(-18.415,-2.3) 42(-18.415,2.3) 43(-17.145,-2.3) 44(-17.145,2.3) 45(-15.875,-2.3) 46(-15.875,2.3) 47(-14.605,-2.3) 48(-14.605,2.3) 49(-13.335,-2.3) 50(-13.335,2.3) 51(-12.065,-2.3) 52(-12.065,2.3) 55(-9.525,-2.3) 56(-9.525,2.3) 57(-8.255,-2.3) 58(-8.255,2.3) 59(-6.985,-2.3) 60(-6.985,2.3) 61(-5.715,-2.3) 62(-5.715,2.3) 63(-4.445,-2.3) 64(-4.445,2.3) 65(-3.175,-2.3) 66(-3.175,2.3) 67(-1.905,-2.3) 68(-1.905,2.3) 69(-0.635,-2.3) 70(-0.635,2.3) 71(0.635,-2.3) 72(0.635,2.3) 73(1.905,-2.3) 74(1.905,2.3) 75(3.175,-2.3) 76(3.175,2.3) 77(4.445,-2.3) 78(4.445,2.3) 79(5.715,-2.3) 80(5.715,2.3) 81(6.985,-2.3) 82(6.985,2.3) 83(8.255,-2.3) 84(8.255,2.3) 85(9.525,-2.3) 86(9.525,2.3) 87(10.795,-2.3) 88(10.795,2.3) 89(12.065,-2.3) 90(12.065,2.3) 91(13.335,-2.3) 92(13.335,2.3) 93(14.605,-2.3) 94(14.605,2.3) 95(15.875,-2.3) 96(15.875,2.3) 97(17.145,-2.3) 98(17.145,2.3) 99(18.415,-2.3) 100(18.415,2.3) 101(19.685,-2.3) 102(19.685,2.3) 103(20.955,-2.3) 104(20.955,2.3) 105(22.225,-2.3) 106(22.225,2.3) 107(23.495,-2.3) 108(23.495,2.3) 109(24.765,-2.3) 110(24.765,2.3) 111(26.035,-2.3) 112(26.035,2.3) 113(27.305,-2.3) 114(27.305,2.3) 117(29.845,-2.3) 118(29.845,2.3) 119(31.115,-2.3) 120(31.115,2.3) 121(32.385,-2.3) 122(32.385,2.3) 123(33.655,-2.3) 124(33.655,2.3) 125(34.925,-2.3) 126(34.925,2.3) 127(36.195,-2.3) 128(36.195,2.3) 129(37.465,-2.3) 130(37.465,2.3) 131(38.735,-2.3) 132(38.735,2.3) 133(40.005,-2.3) 134(40.005,2.3) 135(41.275,-2.3) 136(41.275,2.3) 137(42.545,-2.3) 138(42.545,2.3) 139(43.815,-2.3) 140(43.815,2.3)
  round 1.5 hole 1: Un1(-47.5,0) Un4(47.5,0)
  round 1.45 hole 1.45: Un2(-45.595,0) Un3(45.595,-1)
F.SilkS:
  lines w0.254: -48.52,-2.04 -47.25,-3.31 48.52,-3.31 48.52,3.31 -48.52,3.31 -48.52,-2.04
Top Assembly:
  lines w0.254: -48.41,-1.93 -47.14,-3.2 48.41,-3.2 48.41,3.2 -48.41,3.2 -48.41,-1.93
  text "'.Designator'" at -4.047,-0.84 h1
Top Courtyard:
  lines w0.254: -48.91,-3.7 48.91,-3.7 48.91,3.7 -48.91,3.7 -48.91,-3.7
Top Designator:
  text ".Designator" at -7.618,-0.508 h1.52

## Samtec_MECF-70-02-L-DV_2x70_P1.27mm_Polarized_Socket_Horizontal [mm]
pads (138):
  rect 0.66x1.35 smd: 1(-43.815,-2.3) 2(-43.815,2.3) 3(-42.545,-2.3) 4(-42.545,2.3) 5(-41.275,-2.3) 6(-41.275,2.3) 7(-40.005,-2.3) 8(-40.005,2.3) 9(-38.735,-2.3) 10(-38.735,2.3) 11(-37.465,-2.3) 12(-37.465,2.3) 13(-36.195,-2.3) 14(-36.195,2.3) 15(-34.925,-2.3) 16(-34.925,2.3) 17(-33.655,-2.3) 18(-33.655,2.3) 19(-32.385,-2.3) 20(-32.385,2.3) 21(-31.115,-2.3) 22(-31.115,2.3) 23(-29.845,-2.3) 24(-29.845,2.3) 25(-28.575,-2.3) 26(-28.575,2.3) 27(-27.305,-2.3) 28(-27.305,2.3) 29(-26.035,-2.3) 30(-26.035,2.3) 31(-24.765,-2.3) 32(-24.765,2.3) 33(-23.495,-2.3) 34(-23.495,2.3) 35(-22.225,-2.3) 36(-22.225,2.3) 37(-20.955,-2.3) 38(-20.955,2.3) 39(-19.685,-2.3) 40(-19.685,2.3) 41(-18.415,-2.3) 42(-18.415,2.3) 43(-17.145,-2.3) 44(-17.145,2.3) 45(-15.875,-2.3) 46(-15.875,2.3) 47(-14.605,-2.3) 48(-14.605,2.3) 49(-13.335,-2.3) 50(-13.335,2.3) 51(-12.065,-2.3) 52(-12.065,2.3) 55(-9.525,-2.3) 56(-9.525,2.3) 57(-8.255,-2.3) 58(-8.255,2.3) 59(-6.985,-2.3) 60(-6.985,2.3) 61(-5.715,-2.3) 62(-5.715,2.3) 63(-4.445,-2.3) 64(-4.445,2.3) 65(-3.175,-2.3) 66(-3.175,2.3) 67(-1.905,-2.3) 68(-1.905,2.3) 69(-0.635,-2.3) 70(-0.635,2.3) 71(0.635,-2.3) 72(0.635,2.3) 73(1.905,-2.3) 74(1.905,2.3) 75(3.175,-2.3) 76(3.175,2.3) 77(4.445,-2.3) 78(4.445,2.3) 79(5.715,-2.3) 80(5.715,2.3) 81(6.985,-2.3) 82(6.985,2.3) 83(8.255,-2.3) 84(8.255,2.3) 85(9.525,-2.3) 86(9.525,2.3) 87(10.795,-2.3) 88(10.795,2.3) 89(12.065,-2.3) 90(12.065,2.3) 91(13.335,-2.3) 92(13.335,2.3) 93(14.605,-2.3) 94(14.605,2.3) 95(15.875,-2.3) 96(15.875,2.3) 97(17.145,-2.3) 98(17.145,2.3) 99(18.415,-2.3) 100(18.415,2.3) 101(19.685,-2.3) 102(19.685,2.3) 103(20.955,-2.3) 104(20.955,2.3) 105(22.225,-2.3) 106(22.225,2.3) 107(23.495,-2.3) 108(23.495,2.3) 109(24.765,-2.3) 110(24.765,2.3) 111(26.035,-2.3) 112(26.035,2.3) 113(27.305,-2.3) 114(27.305,2.3) 117(29.845,-2.3) 118(29.845,2.3) 119(31.115,-2.3) 120(31.115,2.3) 121(32.385,-2.3) 122(32.385,2.3) 123(33.655,-2.3) 124(33.655,2.3) 125(34.925,-2.3) 126(34.925,2.3) 127(36.195,-2.3) 128(36.195,2.3) 129(37.465,-2.3) 130(37.465,2.3) 131(38.735,-2.3) 132(38.735,2.3) 133(40.005,-2.3) 134(40.005,2.3) 135(41.275,-2.3) 136(41.275,2.3) 137(42.545,-2.3) 138(42.545,2.3) 139(43.815,-2.3) 140(43.815,2.3)
  round 1.45 hole 1.45: Un1(-45.595,0) Un2(45.595,-1)
F.SilkS:
  lines w0.254: -46.61,-2.04 -45.34,-3.31 46.61,-3.31 46.61,3.31 -46.61,3.31 -46.61,-2.04
Top Assembly:
  lines w0.254: -46.505,-1.93 -45.235,-3.2 46.505,-3.2 46.505,3.2 -46.505,3.2 -46.505,-1.93
  text "'.Designator'" at -4.047,-0.84 h1
Top Courtyard:
  lines w0.254: -47.01,-3.7 47.01,-3.7 47.01,3.7 -47.01,3.7 -47.01,-3.7
Top Designator:
  text ".Designator" at -7.618,-0.508 h1.52